# EAGLE library part DS2710 (library custom)
NiMH Charger IC
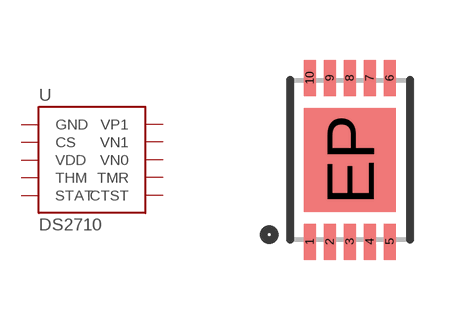
[diagram p107: symbol with the pads of 10-TDFN-EP-3X4; footprint 10-TDFN-EP-3X4]

Designator prefix U

## DS2710  [10-TDFN-EP-3X4]
1  GND
2  CS
3  VDD
4  THM
5  STAT
6  CTST
7  TMR
8  VN0
9  VN1
10  VP1
EP  GND

## Footprint 10-TDFN-EP-3X4 (pad centres in mm)
smd 0.3 x 0.9: 1 -1,-2.05; 2 -0.5,-2.05; 3 0,-2.05; 4 0.5,-2.05; 5 1,-2.05; 6 1,2.05; 7 0.5,2.05; 8 0,2.05; 9 -0.5,2.05; 10 -1,2.05
smd 2.3 x 2.6: EP 0,0